# Altium footprint library Footprints.PcbLib: 34 footprints (part 1 of 3)
Each footprint in its own frame and in the unit in brackets; x right, y up, seen from the top. Pads: shape width x height; smd on the part's side, far side on the other; paste and mask are expansions set on the pad; w line width, h text height; cw(c..) or ccw(c..) is an arc to the next point about the centre after c.
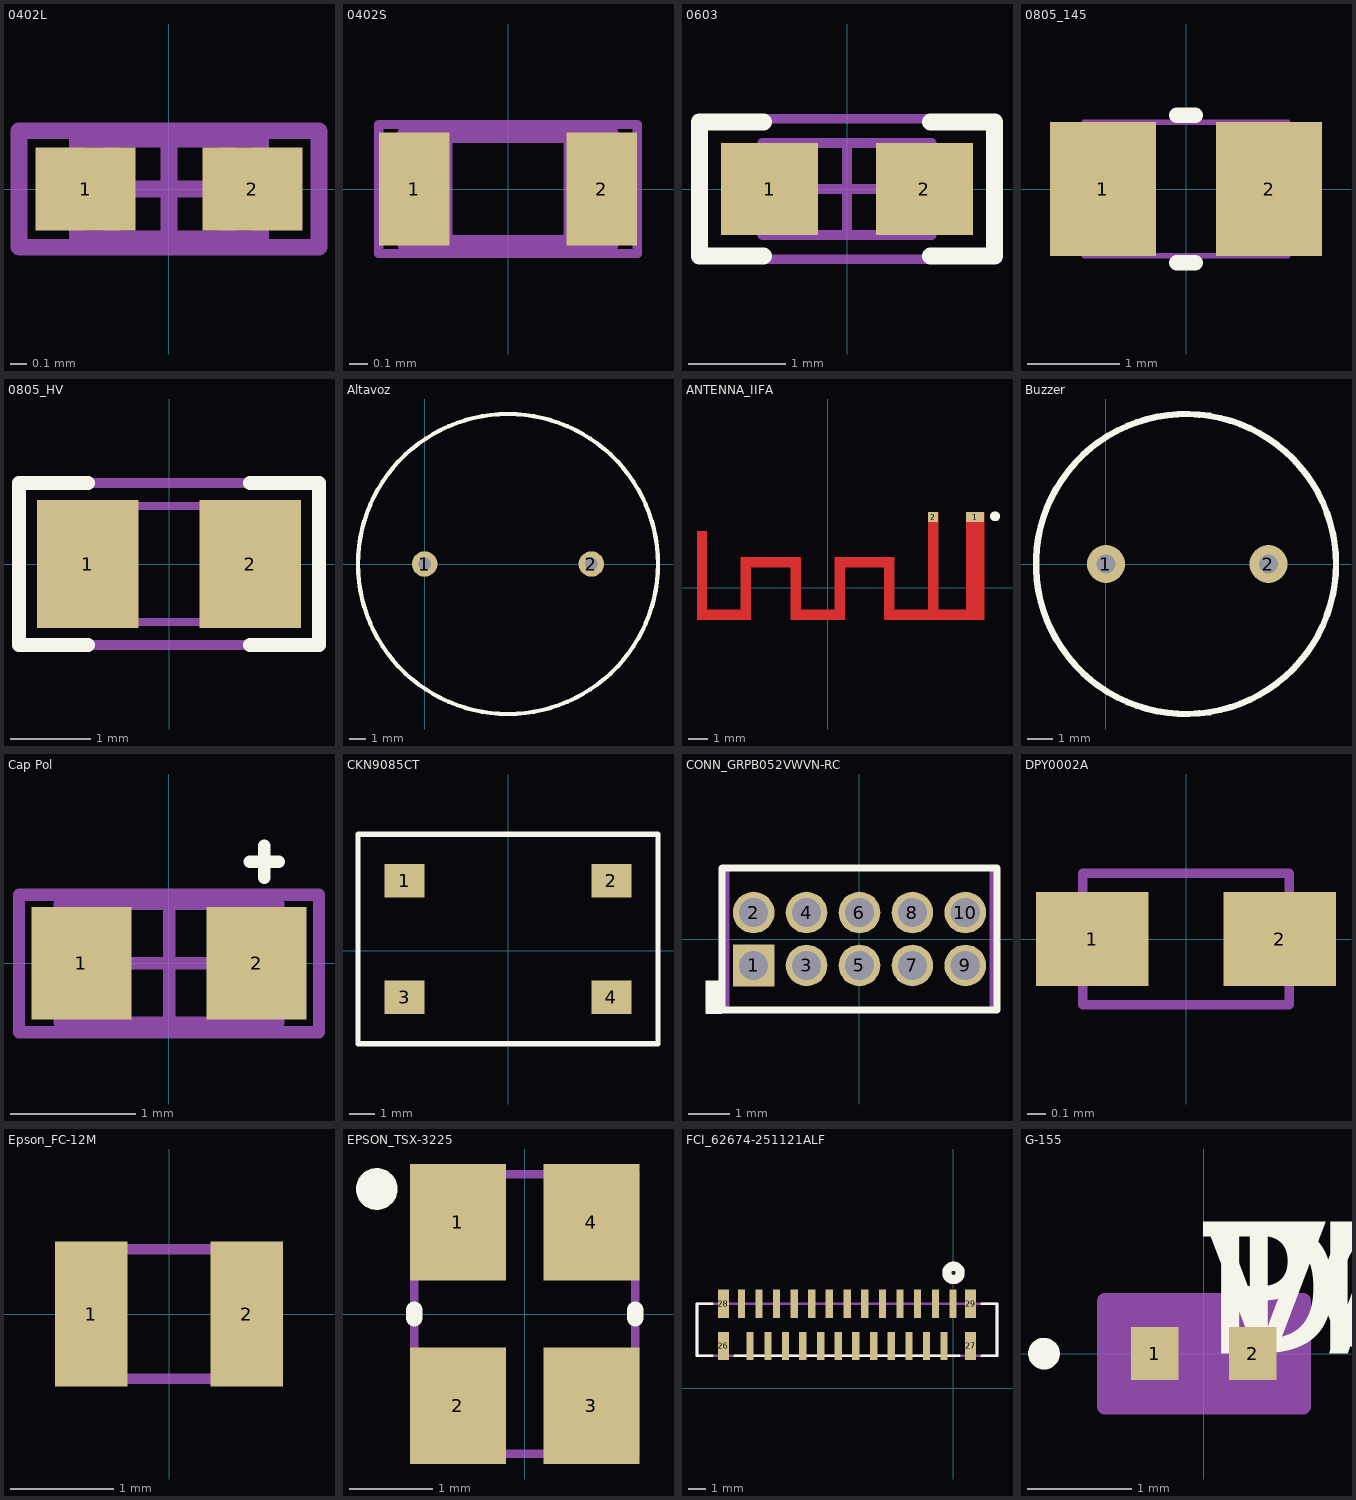
[diagram p0: the footprints below, top view; thin cyan lines are the x and y axes]

## 0402L [mm] "0402 from SM-752 data"
height 0.6
pads (2):
  rect 0.6x0.5 smd: 1(-0.5,0) 2(0.5,0)
Mechanical 5:
  lines w0.1: -0.9,-0.35 0.9,-0.35 0.9,0.35 -0.9,0.35 -0.9,-0.35
  text ".Designator" at -0.775,-0.225 h0.43
Mechanical 13:
  lines w0.1: -0.35,-0.3 -0.35,0.3 ; 0.35,-0.3 0.35,0.3 ; -0.55,-0.3 -0.55,0.3 0.55,0.3 0.55,-0.3 -0.55,-0.3
Mechanical 15:
  lines w0.1: -0.3,0 0.3,0 ; 0,-0.3 0,0.3 ; -0.9,-0.35 -0.9,0.35 0.9,0.35 0.9,-0.35 -0.9,-0.35
3D body: height 0.6, standoff 0, extent -0.549,-0.299 -0.351,0.299
3D body: height 0.6, standoff 0, extent -0.349,-0.299 0.349,0.299
3D body: height 0.6, standoff 0, extent 0.351,-0.299 0.549,0.299

## 0402S [mil] "Based on C0402S footprint from PADS legacy"
height 23.62
pads (2):
  rect 15x24 smd: 1(-20,0) 2(20,0)
Mechanical 5:
  lines w1.97: -27.56,-13.78 27.56,-13.78 27.56,13.78 -27.56,13.78 -27.56,-13.78
  text ".Designator" at -21.65,-5.91 h12
Mechanical 13:
  lines w3.94: -13.78,-11.81 -13.78,11.81 ; 13.78,-11.81 13.78,11.81 ; -21.65,-11.81 -21.65,11.81 21.65,11.81 21.65,-11.81 -21.65,-11.81
3D body: height 23.62, standoff 0, extent -21.63,-11.79 -13.8,11.79
3D body: height 23.62, standoff 0, extent -13.76,-11.79 13.76,11.79
3D body: height 23.62, standoff 0, extent 13.8,-11.79 21.63,11.79

## 0603 [mm] "0603 from SM-752 data"
height 1
pads (2):
  rect 1x0.95 smd: 1(-0.8,0) 2(0.8,0)
Top Overlay:
  lines w0.178: -0.864,-0.691 -1.524,-0.691 -1.524,0.693 -0.864,0.693 ; 0.864,-0.691 1.524,-0.691 1.524,0.693 0.864,0.693
Mechanical 5:
  lines w0.1: -1.55,-0.725 -1.55,0.725 1.55,0.725 1.55,-0.725 -1.55,-0.725
  text ".Designator" at -1.016,-0.381 h0.76
Mechanical 13:
  lines w0.1: -0.55,-0.475 -0.55,0.475 ; 0.55,-0.475 0.55,0.475 ; -0.875,-0.475 0.875,-0.475 0.875,0.475 -0.875,0.475 -0.875,-0.475
Mechanical 15:
  lines w0.1: -0.475,0 0.475,0 ; 0,-0.475 0,0.475 ; -1.55,-0.725 1.55,-0.725 1.55,0.725 -1.55,0.725 -1.55,-0.725
3D body: height 1, standoff 0, extent -0.874,-0.474 -0.551,0.474
3D body: height 1, standoff 0, extent -0.549,-0.474 0.549,0.474
3D body: height 1, standoff 0, extent 0.551,-0.474 0.874,0.474

## 0805_145 [mm] "0805 / 1.45mm height"
height 1.45
pads (2):
  rect 1.15x1.45 smd: 1(-0.9,0) 2(0.9,0)
Top Overlay:
  lines w0.17: -0.1,-0.8 0.1,-0.8 ; -0.1,0.8 0.1,0.8
Mechanical 5:
  lines w0.06: -1.1,-0.725 -1.1,0.725 1.1,0.725 1.1,-0.725 -1.1,-0.725
  text ".Designator" at -0.381,-0.254 h0.53
3D body: height 1.45, standoff 0, extent 0.501,-0.724 1.099,0.724
3D body: height 1.45, standoff 0, extent -0.499,-0.724 0.5,0.725
3D body: height 1.45, standoff 0, extent -1.099,-0.724 -0.501,0.724

## 0805_HV [mil] "0805 with 30mil clearance between pads"
height 57.09
pads (2):
  rect 50x63 smd: 1(-40,0) 2(40,0)
Top Overlay:
  lines w7: -40,-40 -74,-40 -74,0 -74,40 -40,40 ; 40,-40 74,-40 74,0 74,40 40,40
Mechanical 5:
  lines w5: -74,-40 74,-40 74,40 -74,40 -74,-40
  text ".Designator" at 50,20 h35
Mechanical 13:
  lines w3.94: -25.59,-28.54 -25.59,28.54 ; 25.59,-28.54 25.59,28.54 ; -43.31,-28.54 43.31,-28.54 43.31,28.54 -43.31,28.54 -43.31,-28.54
3D body: height 57.09, standoff 0, extent -43.29,-28.52 -25.61,28.52
3D body: height 57.09, standoff 0, extent -25.57,-28.52 25.57,28.52
3D body: height 57.09, standoff 0, extent 25.61,-28.52 43.29,28.52

## Altavoz [mil]
pads (2):
  round 60 hole 30: 1(0,0) 2(393.7,0)
Top Overlay:
  circle w10: c196.85,0 r354.33

## ANTENNA_IIFA [mm] "PCB Antenna, 2-Leads"
pads (2):
  rect 0.9x0.5 smd paste-1 mask-1: 1(7.4,3.55)
  rect 0.5x0.5 smd paste-1 mask-1: 2(5.3,3.55)
Top Layer:
  region: 7.85,3.8 7.85,-1.6 2.85,-1.6 2.85,1.04 0.85,1.04 0.85,-1.6 -1.85,-1.6 -1.85,1.04 -3.85,1.04 -3.85,-1.6 -6.55,-1.6 -6.55,2.84 -6.05,2.84 -6.05,-1.1 -4.35,-1.1 -4.35,1.54 -1.35,1.54 -1.35,-1.1 0.35,-1.1 0.35,1.54 3.35,1.54 3.35,-1.1 5.05,-1.1 5.05,3.8 5.55,3.8 5.55,-1.1 6.95,-1.1 6.95,3.8
Top Overlay:
  circle w0.3: c8.4,3.595 r0.1

## Buzzer [mil]
pads (2):
  round 60 hole 30: 1(0,0) 2(255.91,0)
Top Overlay:
  circle w10: c125.98,0 r236.22

## Cap Pol [mm] "Chip Capacitor, Body 1.6x0.8mm, IPC High Density"
height 1.3
pads (2):
  rect 0.8x0.9 smd: 1(-0.7,0) 2(0.7,0)
Top Overlay:
  lines w0.1: 0.648,0.813 0.876,0.813 ; 0.762,0.686 0.762,0.94
Mechanical 13:
  lines w0.1: -0.875,-0.475 -0.875,0.475 0.875,0.475 0.875,-0.475 -0.875,-0.475
Mechanical 15:
  lines w0.1: -0.475,0 0.475,0 ; 0,-0.475 0,0.475 ; -1.2,-0.55 -1.2,0.55 1.2,0.55 1.2,-0.55 -1.2,-0.55
3D body: height 1.3, standoff 0, extent -0.875,-0.475 0.875,0.475

## CKN9085CT [mm]
pads (4):
  rect 1.55x1.3 smd: 1(-4,2.7) 2(4,2.7) 3(-4,-1.8) 4(4,-1.8)
Top Overlay:
  lines w0.2: -5.8,-3.6 5.8,-3.6 5.8,4.5 -5.8,4.5 -5.8,-1.7 -5.8,-3.6
3D body "User Library-PTS645SL50SMTR92-LFS.STEP": height 5, standoff 0, extent -4.5,-2.6 4.5,3.4

## CONN_GRPB052VWVN-RC [mm] "SULLINS"
height 4
pads (10):
  rect 1x1 hole 0.7 mask+0.08: 1(-2.54,-0.635)
  round 1 hole 0.7 mask+0.08: 2(-2.54,0.635) 3(-1.27,-0.635) 4(-1.27,0.635) 5(0,-0.635) 6(0,0.635) 7(1.27,-0.635) 8(1.27,0.635) 9(2.54,-0.635) 10(2.54,0.635)
Top Overlay:
  region: -3.3,-1.8 -3.3,-1 -3.7,-1 -3.7,-1.8
  lines w0.17: -3.3,-1.7 -3.3,0.6 -3.3,1.7 3.3,1.7 3.3,-1.7 -3.3,-1.7
Mechanical 5:
  lines w0.1: -3.175,-1.7 -3.175,1.7 3.175,1.7 3.175,-1.7 -3.175,-1.7
  text ".Designator" at 0.991,0.457 h1
3D body: height 4, standoff -2.3, extent -2.739,-0.834 -2.34,-0.435
3D body: height 4, standoff -2.3, extent 2.341,0.436 2.739,0.834
3D body: height 4, standoff -2.3, extent 1.071,0.436 1.469,0.834
3D body: height 4, standoff -2.3, extent -0.199,0.436 0.199,0.834
3D body: height 4, standoff -2.3, extent 2.341,-0.834 2.739,-0.436
3D body: height 4, standoff -2.3, extent 1.071,-0.834 1.469,-0.436
3D body: height 4, standoff -2.3, extent -0.199,-0.834 0.199,-0.436
3D body: height 4, standoff -2.3, extent -1.469,0.436 -1.071,0.834
3D body: height 4, standoff -2.3, extent -2.739,0.436 -2.341,0.834
3D body: height 4, standoff -2.3, extent -1.469,-0.834 -1.071,-0.436
3D body: height 1, standoff 0, extent -3.174,-1.699 3.174,1.699

## DPY0002A [mm] "R-PX2SON-N2"
height 0.4
pads (2):
  rect 0.6x0.5 smd: 1(-0.5,0) 2(0.5,0)
Mechanical 5:
  lines w0.05: -0.55,-0.35 -0.55,0.35 0.55,0.35 0.55,-0.35 -0.55,-0.35
  text ".Designator" at -0.127,-0.127 h0.25
3D body: height 0.4, standoff 0, extent -0.549,-0.349 0.549,0.349

## Epson_FC-12M [mm] "Epson"
height 0.6
pads (2):
  rect 0.7x1.4 smd: 1(-0.75,0) 2(0.75,0)
Mechanical 5:
  lines w0.1: -1.05,-0.625 1.05,-0.625 1.05,0.625 -1.05,0.625 -1.05,-0.625
  text ".Designator" at -0.914,-0.254 h0.51
3D body: height 0.6, standoff 0, extent -1.05,-0.625 1.05,0.625

## EPSON_TSX-3225 [mm] "SMD, 4-Leads, Body 2.65x3.35mm, Height 0.6mm"
height 0.6
pads (4):
  rect 1.15x1.4 smd: 1(-0.8,1.1) 2(-0.8,-1.1) 3(0.8,-1.1) 4(0.8,1.1)
Top Overlay:
  circle w0.25: c-1.775,1.5 r0.125
  lines w0.2: -1.325,-0.05 -1.325,0.05 ; 1.325,-0.05 1.325,0.05
Mechanical 5:
  circle w0.1: c-0.7,1 r0.2
  lines w0.1: -1.325,-1.675 -1.325,1.675 1.325,1.675 1.325,-1.675 -1.325,-1.675
  text ".Designator" at -1,-0.25 h0.6
3D body: height 0.4, standoff 0.2, extent -1.301,-1.65 1.3,1.65
3D body: height 0.6, standoff 0.4, extent -1.099,-1.449 1.099,1.449
3D body: height 0.2, standoff 0, extent -1.325,-1.675 1.325,1.675
3D body: height 0.61, standoff 0.3, extent -0.899,0.801 -0.501,1.199

## FCI_62674-251121ALF [mil]
pads (29):
  rect 16x63 smd paste-1000 mask-1000: 1(0,188) 2(-20,94) 3(-39,188) 4(-59,94) 5(-79,188) 6(-98,94) 7(-118,188) 8(-138,94) 9(-157,188) 10(-177,94) 11(-197,188) 12(-217,94) 13(-236,188) 14(-256,94) 15(-276,188) 16(-295,94) 17(-315,188) 18(-335,94) 19(-354,188) 20(-374,94) 21(-394,188) 22(-413,94) 23(-433,188) 24(-453,94) 25(-472,188)
  rect 24x63 smd paste-1000 mask-1000: 26(-512,94) 27(39,94) 28(-512,188) 29(39,188)
Top Overlay:
  lines w6: -537,72 -571,72 -571,188 -537,188 ; -487,72 14,72 ; 64,72 98,72 98,188 64,188
  lines w20: -14,257 cw(c1,257) 16,257 cw(c1,257) -14,257
Top Paste:
  region: 27,156.5 51,156.5 51,219.5 27,219.5
  region: -524,156.5 -500,156.5 -500,219.5 -524,219.5
  region: 27,62.5 51,62.5 51,125.5 27,125.5
  region: -524,62.5 -500,62.5 -500,125.5 -524,125.5
  region: -464,156.5 -464,219.5 -480,219.5 -480,156.5
  region: -445,62.5 -445,125.5 -461,125.5 -461,62.5
  region: -425,156.5 -425,219.5 -441,219.5 -441,156.5
  region: -405,62.5 -405,125.5 -421,125.5 -421,62.5
  region: -386,156.5 -386,219.5 -402,219.5 -402,156.5
  region: -366,62.5 -366,125.5 -382,125.5 -382,62.5
  region: -346,156.5 -346,219.5 -362,219.5 -362,156.5
  region: -327,62.5 -327,125.5 -343,125.5 -343,62.5
  region: -307,156.5 -307,219.5 -323,219.5 -323,156.5
  region: -287,62.5 -287,125.5 -303,125.5 -303,62.5
  region: -268,156.5 -268,219.5 -284,219.5 -284,156.5
  region: -248,62.5 -248,125.5 -264,125.5 -264,62.5
  region: -228,156.5 -228,219.5 -244,219.5 -244,156.5
  region: -209,62.5 -209,125.5 -225,125.5 -225,62.5
  region: -189,156.5 -189,219.5 -205,219.5 -205,156.5
  region: -169,62.5 -169,125.5 -185,125.5 -185,62.5
  region: -149,156.5 -149,219.5 -165,219.5 -165,156.5
  region: -130,62.5 -130,125.5 -146,125.5 -146,62.5
  region: -110,156.5 -110,219.5 -126,219.5 -126,156.5
  region: -90,62.5 -90,125.5 -106,125.5 -106,62.5
  region: -71,156.5 -71,219.5 -87,219.5 -87,156.5
  region: -51,62.5 -51,125.5 -67,125.5 -67,62.5
  region: -31,156.5 -31,219.5 -47,219.5 -47,156.5
  region: -12,62.5 -12,125.5 -28,125.5 -28,62.5
  region: 8,156.5 8,219.5 -8,219.5 -8,156.5
Top Solder:
  region: 23.06,152.56 54.94,152.56 54.94,223.44 23.06,223.44
  region: -527.94,152.56 -496.06,152.56 -496.06,223.44 -527.94,223.44
  region: 23.06,58.56 54.94,58.56 54.94,129.44 23.06,129.44
  region: -527.94,58.56 -496.06,58.56 -496.06,129.44 -527.94,129.44
  region: -460.06,152.56 -460.06,223.44 -483.94,223.44 -483.94,152.56
  region: -441.06,58.56 -441.06,129.44 -464.94,129.44 -464.94,58.56
  region: -421.06,152.56 -421.06,223.44 -444.94,223.44 -444.94,152.56
  region: -401.06,58.56 -401.06,129.44 -424.94,129.44 -424.94,58.56
  region: -382.06,152.56 -382.06,223.44 -405.94,223.44 -405.94,152.56
  region: -362.06,58.56 -362.06,129.44 -385.94,129.44 -385.94,58.56
  region: -342.06,152.56 -342.06,223.44 -365.94,223.44 -365.94,152.56
  region: -323.06,58.56 -323.06,129.44 -346.94,129.44 -346.94,58.56
  region: -303.06,152.56 -303.06,223.44 -326.94,223.44 -326.94,152.56
  region: -283.06,58.56 -283.06,129.44 -306.94,129.44 -306.94,58.56
  region: -264.06,152.56 -264.06,223.44 -287.94,223.44 -287.94,152.56
  region: -244.06,58.56 -244.06,129.44 -267.94,129.44 -267.94,58.56
  region: -224.06,152.56 -224.06,223.44 -247.94,223.44 -247.94,152.56
  region: -205.06,58.56 -205.06,129.44 -228.94,129.44 -228.94,58.56
  region: -185.06,152.56 -185.06,223.44 -208.94,223.44 -208.94,152.56
  region: -165.06,58.56 -165.06,129.44 -188.94,129.44 -188.94,58.56
  region: -145.06,152.56 -145.06,223.44 -168.94,223.44 -168.94,152.56
  region: -126.06,58.56 -126.06,129.44 -149.94,129.44 -149.94,58.56
  region: -106.06,152.56 -106.06,223.44 -129.94,223.44 -129.94,152.56
  region: -86.06,58.56 -86.06,129.44 -109.94,129.44 -109.94,58.56
  region: -67.06,152.56 -67.06,223.44 -90.94,223.44 -90.94,152.56
  region: -47.06,58.56 -47.06,129.44 -70.94,129.44 -70.94,58.56
  region: -27.06,152.56 -27.06,223.44 -50.94,223.44 -50.94,152.56
  region: -8.06,58.56 -8.06,129.44 -31.94,129.44 -31.94,58.56
  region: 11.94,152.56 11.94,223.44 -11.94,223.44 -11.94,152.56
Mechanical 1:
  lines w6: -571,72 -571,188 98,188 98,72 -571,72
  lines w20: -14,257 cw(c1,257) 16,257 cw(c1,257) -14,257

## G-155 [mil]
pads (2):
  rect 18x20 smd: 1(-18.5,0) 2(18.5,0)
Top Overlay:
  circle w6: c-60.5,0 r3
  text "PN" at 0,0 h50
  text "DEV" at 0,0 h50
  text "VAL" at 0,0 h50
  text "TOL" at 0,0 h50
Mechanical 13:
  circle w0: c-13.5,0 r3
  text "RefDes2" at 0,0 h50
Mechanical 15:
  region: 37.5,-20 -37.5,-20 -37.5,20 37.5,20
  lines w6: -37.5,-20 -37.5,20 37.5,20 37.5,-20 -37.5,-20
3D body: height 10, standoff 0, extent 0,0 10,10